# Altium schematic symbol library lite-on.SchLib: 1 symbol
Pins are listed as number, name and electrical type; pins without a type are passive.

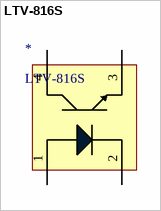
[diagram p0: symbol LTV-816S]

## LTV-816S
designator *
footprint LTV-816S
pins: 1, 2, 3, 4